# Altium schematic symbol library WE-FCLP.SchLib: 8 symbols
Pins are listed as number, name and electrical type; pins without a type are passive.

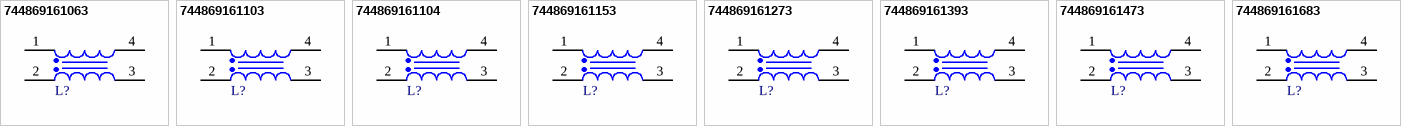
[diagram p0: symbols 744869161063 to 744869161683]

## 744869161063
designator L?, comment 6mH  (value not drawn)
WE-FCLP THT Common Mode Power Line Choke, FT16H, 6mH, 2.4A, 0.22Ω; Manufacturer Part Number: 744869161063; Manufacturer: Wurth Elektronik; Insulation Test Voltage: 1.5kV; Leakage Inductance: 120µH; Material: MnZn; Rated Voltage (AC): 250V; ComponentLink1Description: Manufacturer Link; ComponentLink1URL: https://www.we-online.com/redexpert/article/744869161063?ad; ComponentLink2Description: Datasheet; ComponentLink2URL: https://www.we-online.com/redexpert/spec/744869161063?ad; Category: Common Mode Chokes; Match Code: WE-FCLP; Mount: Through Hole; Operating Temperature Max: 125°C; Operating Temperature Min: -40°C; Packaging: Tray; Case/Size Code: FT16H; Length: 24.5mm; Width: 15.5mm; Height: 14.5mm; DC Resistance Max: 0.22Ω; Inductance: 6mH; Rated Current: 2.4A
footprint WE-FCLP_FT16H
pins: 1, 2, 3, 4

## 744869161103
designator L?, comment 10mH  (value not drawn)
WE-FCLP THT Common Mode Power Line Choke, FT16H, 10mH, 1.7A, 0.33Ω; Manufacturer Part Number: 744869161103; Manufacturer: Wurth Elektronik; Insulation Test Voltage: 1.5kV; Leakage Inductance: 200µH; Material: MnZn; Rated Voltage (AC): 250V; ComponentLink1Description: Manufacturer Link; ComponentLink1URL: https://www.we-online.com/redexpert/article/744869161103?ad; ComponentLink2Description: Datasheet; ComponentLink2URL: https://www.we-online.com/redexpert/spec/744869161103?ad; Category: Common Mode Chokes; Match Code: WE-FCLP; Mount: Through Hole; Operating Temperature Max: 125°C; Operating Temperature Min: -40°C; Packaging: Tray; Case/Size Code: FT16H; Length: 24.5mm; Width: 15.5mm; Height: 14.5mm; DC Resistance Max: 0.33Ω; Inductance: 10mH; Rated Current: 1.7A
footprint WE-FCLP_FT16H
pins: 1, 2, 3, 4

## 744869161104
designator L?, comment 100mH  (value not drawn)
WE-FCLP THT Common Mode Power Line Choke, FT16H, 100mH, 0.5A, 3.47Ω; Manufacturer Part Number: 744869161104; Manufacturer: Wurth Elektronik; Insulation Test Voltage: 1.5kV; Leakage Inductance: 1930µH; Material: MnZn; Rated Voltage (AC): 250V; ComponentLink1Description: Manufacturer Link; ComponentLink1URL: https://www.we-online.com/redexpert/article/744869161104?ad; ComponentLink2Description: Datasheet; ComponentLink2URL: https://www.we-online.com/redexpert/spec/744869161104?ad; Category: Common Mode Chokes; Match Code: WE-FCLP; Mount: Through Hole; Operating Temperature Max: 125°C; Operating Temperature Min: -40°C; Packaging: Tray; Case/Size Code: FT16H; Length: 24.5mm; Width: 15.5mm; Height: 14.5mm; DC Resistance Max: 3.47Ω; Inductance: 100mH; Rated Current: 0.5A
footprint WE-FCLP_FT16H
pins: 1, 2, 3, 4

## 744869161153
designator L?, comment 15mH  (value not drawn)
WE-FCLP THT Common Mode Power Line Choke, FT16H, 15mH, 1.3A, 0.55Ω; Manufacturer Part Number: 744869161153; Manufacturer: Wurth Elektronik; Insulation Test Voltage: 1.5kV; Leakage Inductance: 290µH; Material: MnZn; Rated Voltage (AC): 250V; ComponentLink1Description: Manufacturer Link; ComponentLink1URL: https://www.we-online.com/redexpert/article/744869161153?ad; ComponentLink2Description: Datasheet; ComponentLink2URL: https://www.we-online.com/redexpert/spec/744869161153?ad; Category: Common Mode Chokes; Match Code: WE-FCLP; Mount: Through Hole; Operating Temperature Max: 125°C; Operating Temperature Min: -40°C; Packaging: Tray; Case/Size Code: FT16H; Length: 24.5mm; Width: 15.5mm; Height: 14.5mm; DC Resistance Max: 0.55Ω; Inductance: 15mH; Rated Current: 1.3A
footprint WE-FCLP_FT16H
pins: 1, 2, 3, 4

## 744869161273
designator L?, comment 27mH  (value not drawn)
WE-FCLP THT Common Mode Power Line Choke, FT16H, 27mH, 1A, 1Ω; Manufacturer Part Number: 744869161273; Manufacturer: Wurth Elektronik; Insulation Test Voltage: 1.5kV; Leakage Inductance: 520µH; Material: MnZn; Rated Voltage (AC): 250V; ComponentLink1Description: Manufacturer Link; ComponentLink1URL: https://www.we-online.com/redexpert/article/744869161273?ad; ComponentLink2Description: Datasheet; ComponentLink2URL: https://www.we-online.com/redexpert/spec/744869161273?ad; Category: Common Mode Chokes; Match Code: WE-FCLP; Mount: Through Hole; Operating Temperature Max: 125°C; Operating Temperature Min: -40°C; Packaging: Tray; Case/Size Code: FT16H; Length: 24.5mm; Width: 15.5mm; Height: 14.5mm; DC Resistance Max: 1Ω; Inductance: 27mH; Rated Current: 1A
footprint WE-FCLP_FT16H
pins: 1, 2, 3, 4

## 744869161393
designator L?, comment 39mH  (value not drawn)
WE-FCLP THT Common Mode Power Line Choke, FT16H, 39mH, 0.85A, 1.43Ω; Manufacturer Part Number: 744869161393; Manufacturer: Wurth Elektronik; Insulation Test Voltage: 1.5kV; Leakage Inductance: 760µH; Material: MnZn; Rated Voltage (AC): 250V; ComponentLink1Description: Manufacturer Link; ComponentLink1URL: https://www.we-online.com/redexpert/article/744869161393?ad; ComponentLink2Description: Datasheet; ComponentLink2URL: https://www.we-online.com/redexpert/spec/744869161393?ad; Category: Common Mode Chokes; Match Code: WE-FCLP; Mount: Through Hole; Operating Temperature Max: 125°C; Operating Temperature Min: -40°C; Packaging: Tray; Case/Size Code: FT16H; Length: 24.5mm; Width: 15.5mm; Height: 14.5mm; DC Resistance Max: 1.43Ω; Inductance: 39mH; Rated Current: 0.85A
footprint WE-FCLP_FT16H
pins: 1, 2, 3, 4

## 744869161473
designator L?, comment 47mH  (value not drawn)
WE-FCLP THT Common Mode Power Line Choke, FT16H, 47mH, 0.8A, 1.63Ω; Manufacturer Part Number: 744869161473; Manufacturer: Wurth Elektronik; Insulation Test Voltage: 1.5kV; Leakage Inductance: 920µH; Material: MnZn; Rated Voltage (AC): 250V; ComponentLink1Description: Manufacturer Link; ComponentLink1URL: https://www.we-online.com/redexpert/article/744869161473?ad; ComponentLink2Description: Datasheet; ComponentLink2URL: https://www.we-online.com/redexpert/spec/744869161473?ad; Category: Common Mode Chokes; Match Code: WE-FCLP; Mount: Through Hole; Operating Temperature Max: 125°C; Operating Temperature Min: -40°C; Packaging: Tray; Case/Size Code: FT16H; Length: 24.5mm; Width: 15.5mm; Height: 14.5mm; DC Resistance Max: 1.63Ω; Inductance: 47mH; Rated Current: 0.8A
footprint WE-FCLP_FT16H
pins: 1, 2, 3, 4

## 744869161683
designator L?, comment 68mH  (value not drawn)
WE-FCLP THT Common Mode Power Line Choke, FT16H, 68mH, 0.65A, 2.56Ω; Manufacturer Part Number: 744869161683; Manufacturer: Wurth Elektronik; Insulation Test Voltage: 1.5kV; Leakage Inductance: 1340µH; Material: MnZn; Rated Voltage (AC): 250V; ComponentLink1Description: Manufacturer Link; ComponentLink1URL: https://www.we-online.com/redexpert/article/744869161683?ad; ComponentLink2Description: Datasheet; ComponentLink2URL: https://www.we-online.com/redexpert/spec/744869161683?ad; Category: Common Mode Chokes; Match Code: WE-FCLP; Mount: Through Hole; Operating Temperature Max: 125°C; Operating Temperature Min: -40°C; Packaging: Tray; Case/Size Code: FT16H; Length: 24.5mm; Width: 15.5mm; Height: 14.5mm; DC Resistance Max: 2.56Ω; Inductance: 68mH; Rated Current: 0.65A
footprint WE-FCLP_FT16H
pins: 1, 2, 3, 4